# Altium schematic symbol library Component.SchLib: 47 symbols
Pins are listed as number, name and electrical type; pins without a type are passive.

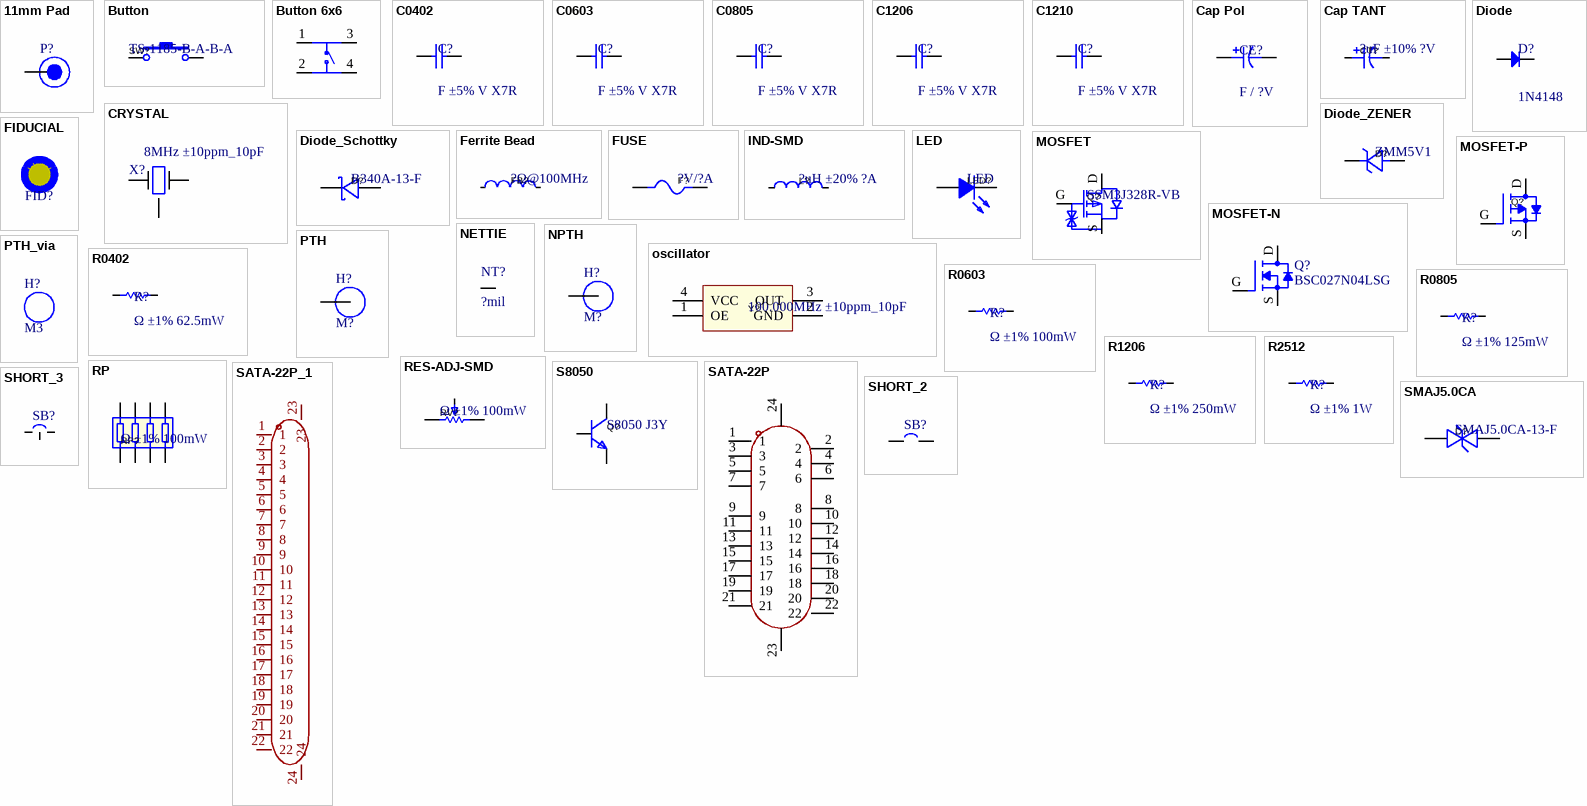
[diagram p0: symbols 11mm Pad to SMAJ5.0CA]

## 11mm Pad
designator P?
TestPad_SMD
footprint 11mm Pad
pins: 1

## Button
designator SW?, comment TS-1185-B-A-B-A
触点电流：50mA 额定电压(DC)：12V 电路结构：单刀单掷 安装方式：立贴 带灯：无 作用力：160gf 机械寿命：10万次 带支架：否 轻触开关3x4x2贴片2脚小龟 160gf; Manufacturer: XKB Connectivity(中国星坤); Add into BOM: yes; Contact Current: 50mA; Voltage Rating (DC): 12V; Circuit: 单刀单掷; Actuator Style: 圆形按钮; Actuator/Cap Color: 黑色; With Lamp: 无; Mechanical Life: 10万次; Switch Length: 4mm; Switch Width: 3mm; Switch Height: 2mm; Strike Gundam: 否; Name: TS-1185-B-A-B-A; Symbol: TS-1185-B-A-B-A; Device: TS-1185-B-A-B-A; LCSC Part Name: 4*3*2mm 立贴 轻触开关; Supplier Part: C561517; Manufacturer Part: TS-1185-B-A-B-A; Supplier Footprint: SMD; JLCPCB Part Class: Extended Part; Datasheet: https://atta.szlcsc.com/upload/public/pdf/source/20211011/C2F26DC0AE1820400F54DBF49644F5A1.pdf; Supplier: LCSC; Convert to PCB: yes; Insulation Resistance: -; Mounting Style: 立贴; Operating Force: 160gf; Operating Temperature: -30℃~+85℃
footprint SW-SMD_L4.0-W3.0-LS5.0
3D model SW-SMD_L4.0-W3.0-H2-LS5.0
pins: 1, 2

## Button 6x6
designator SW?, comment KH-6X6X8H-STM  (value not drawn)
Symbol: KH-6X6X8H-STM
footprint SW-SMD_4P-L6.0-W6.0-P4.50-LS9.0-1
pins: 1 A, 2 C, 3 B, 4 D

## C0402
designator C?, comment F ±5% V X7R
Capacitor; Published: 8-Jun-2000; LatestRevisionDate: 17-Jul-2002; LatestRevisionNote: Re-released for DXP Platform.; PackageReference: RAD-0.3; Publisher: Altium Limited; PackageDescription: Radial Cap, Thru-Hole; 2 Leads; 0.3 in Pin Spacing
simulation model CAP (Capacitor)
signal-integrity model Cap
footprint C0402
pins: 1, 2

## C0603
designator C?, comment F ±5% V X7R
Capacitor; Published: 8-Jun-2000; LatestRevisionDate: 17-Jul-2002; LatestRevisionNote: Re-released for DXP Platform.; PackageReference: RAD-0.3; Publisher: Altium Limited; PackageDescription: Radial Cap, Thru-Hole; 2 Leads; 0.3 in Pin Spacing
simulation model CAP (Capacitor)
signal-integrity model Cap
footprint C0603
pins: 1, 2

## C0805
designator C?, comment F ±5% V X7R
Capacitor; Published: 8-Jun-2000; LatestRevisionDate: 17-Jul-2002; LatestRevisionNote: Re-released for DXP Platform.; PackageReference: RAD-0.3; Publisher: Altium Limited; PackageDescription: Radial Cap, Thru-Hole; 2 Leads; 0.3 in Pin Spacing
simulation model CAP (Capacitor)
signal-integrity model Cap
footprint C0805
pins: 1, 2

## C1206
designator C?, comment F ±5% V X7R
Capacitor; Published: 8-Jun-2000; LatestRevisionDate: 17-Jul-2002; LatestRevisionNote: Re-released for DXP Platform.; PackageReference: RAD-0.3; Publisher: Altium Limited; PackageDescription: Radial Cap, Thru-Hole; 2 Leads; 0.3 in Pin Spacing
simulation model CAP (Capacitor)
signal-integrity model Cap
footprint C1206
pins: 1, 2

## C1210
designator C?, comment F ±5% V X7R
Capacitor; Published: 8-Jun-2000; LatestRevisionDate: 17-Jul-2002; LatestRevisionNote: Re-released for DXP Platform.; PackageReference: RAD-0.3; Publisher: Altium Limited; PackageDescription: Radial Cap, Thru-Hole; 2 Leads; 0.3 in Pin Spacing
simulation model CAP (Capacitor)
signal-integrity model Cap
footprint C1210
pins: 1, 2

## Cap Pol
designator CE?, comment F / ?V
Polarized Capacitor (Axial); Published: 8-Jun-2000; LatestRevisionDate: 17-Jul-2002; LatestRevisionNote: Re-released for DXP Platform.; PackageReference: POLAR0.8; Publisher: Altium Limited; PackageDescription: Polarized Capacitor; 2 Leads
simulation model CAP (Capacitor)
signal-integrity model Cap Pol
footprint CAP-SMD (BD4.0-L4.3-W4.3-FD-LS5.3)
footprint CAP_ELEC_SIZE_G (Capacitor, polarized, aluminum can; 10.0x10.2mm DxH)
pins: 1, 2
1 alternate drawing of the same symbol

## Cap TANT
designator CT?, comment ?uF ±10% ?V
容值:330uF;精度:±20%;额定电压:6.3V;等效串联电阻:-;; Manufacturer: 湘怡中元/湘江; Name: 330uF; Symbol: CA45-C6R3M337T; Add into BOM: yes; Value: 330uF; Tolerance: ±20%; Rated Voltage: 6.3V; Device: CA45-C6R3M337T; LCSC Part Name: 330uF ±20% 6.3V; Supplier Part: C2832686; Manufacturer Part: CA45-C6R3M337T; Supplier Footprint: CASE-A-2312; JLCPCB Part Class: 扩展库; Datasheet: https://atta.szlcsc.com/upload/public/pdf/source/20191009/C435293_78A410F3D73489DBEAC46056C4262F7A.pdf; Supplier: LCSC; Convert to PCB: yes; Leakage Current(DCL): -; Ripple Current: -; Equivalent Series Resistance(ESR): -
3D model CASE-C_L6.0-W3.2-H2.7
footprint CAP-SMD-R-RD (CASE-B-3528)
footprint CAP-SMD_L3.2-W1.6-RD (CASE-A-3216)
footprint CAP-SMD_L6.0-W3.2 (CASE-C-6032)
pins: 1, 2

## CRYSTAL
designator X?, comment 8MHz ±10ppm_10pF
Crystal 8MHz ±10ppm 10pF 200 Ohm -10°C ~ 60°C Surface Mount 4-SMD, No Lead (DFN, LCC); Manufacturer: Abracon LLC; Manufacturer Part Number: ABM3B-8.000MHZ-10-1-U-T; Operating Mode: Fundamental; Supplier 1: Digi-Key; Supplier Part Number 1: 535-9721-1-ND; RoHS: RoHS Compliant; Category: Crystals, Oscillators, Resonators; Stock: 35437; Pricing 1: 1=0.69, 10=0.578, 50=0.5198, 100=0.462, 500=0.4389 (USD); Packaging: Cut Tape (CT); Part Status: Active; Type: MHz Crystal; Frequency Stability: ±10ppm; Frequency Tolerance: ±10ppm; Load Capacitance: 10pF; Operating Temperature: -10°C ~ 60°C; Ratings: -; Mounting Type: Surface Mount; Package / Case: 4-SMD, No Lead; Size / Dimension: 0.197" L x 0.126" W (5.00mm x 3.20mm); Height - Seated (Max): 0.043" (1.10mm); ComponentLink1URL: http://www.abracon.com/Resonators/abm3b.pdf; ComponentLink1Description: http://www.abracon.com/Resonators/abm3b.pdf; Supplier 2: Digi-Key; Supplier Part Number 2: 535-9721-2-ND; Pricing 2: 1000=0.336, 3000=0.315, 5000=0.3045, 10000=0.294 (USD)
footprint CRYSTAL_3225 (4P-L3.2-W2.5-BL-2)
footprint CRYSTAL_2016
footprint CRYSTAL_2520
pins: 1, 3, G

## Diode
designator D?, comment 1N4148
High Conductance Fast Diode; Published: 8-Jun-2000; LatestRevisionDate: 17-Jul-2002; LatestRevisionNote: Re-released for DXP Platform.; DatasheetVersion: 1997; PackageReference: DO-35; Publisher: Altium Limited; PackageDescription: Diode, Axial; Body 3.8 x 1.9 mm (LxDia. max), Lead Dia. 0.53 mm (max); Code_JEDEC: DO-204-AH; ComponentLink1Description: Manufacturer Link; ComponentLink1URL: http://www.fairchildsemi.com/; ComponentLink2Description: Datasheet; ComponentLink2URL: http://www.fairchildsemi.com/ds/1N%2F1N4148.pdf
footprint SOD-523F (L1.2-W0.8-LS1.7-RD)
footprint SOD-123F (L2.7-W1.6-LS3.8-RD)
footprint SMA_L4.3-W2.6-LS5.2-RD
pins: 1 A, 2 K

## Diode_Schottky
designator D?, comment B340A-13-F
直流反向耐压(Vr):40V;平均整流电流(Io):3A;正向压降(Vf):500mV@3A;; Manufacturer: DIODES(美台); Add into BOM: yes; Reverse Voltage (Vr): 40V; Average Rectified Current (Io): 3A; Name: B340A-13-F; Symbol: B340A-13-F; Device: B340A-13-F; LCSC Part Name: 40V 3A 500mV@3A; Supplier Part: C85098; Manufacturer Part: B340A-13-F; Supplier Footprint: SMA(DO-214AC); JLCPCB Part Class: 扩展库; Datasheet: https://atta.szlcsc.com/upload/public/pdf/source/20171023/C134454_15087453575121052549.pdf; Supplier: LCSC; Convert to PCB: yes; Forward Voltage (Vf@If): 500mV@3A
footprint SMA_L4.4-W2.6-LS5.0-RD
3D model SMA_L4.4-W2.6-LS5.0-RD
footprint SOD-123_L2.8-W1.8-LS3.7-RD
footprint SOD-123_L2.7-W1.6-LS3.7-RD
footprint SMA_L4.3-W2.6-LS5.2-RD
pins: 1 K, 2 A

## Diode_ZENER
designator D?, comment ZMM5V1
Manufacturer: Slkor(萨科微); Symbol: ZMM5V1_C707194; Add into BOM: yes; Power Dissipation: 500mW; Reverse Leakage Current (Ir): 100nA@1V; Name: ZMM5V1; Device: ZMM5V1_C707194; LCSC Part Name: 500mW; Supplier Part: C707194; Manufacturer Part: ZMM5V1; Supplier Footprint: LL-34; JLCPCB Part Class: Extended Part; Datasheet: https://atta.szlcsc.com/upload/public/pdf/source/20200721/C707184_776B95022AAA01ECB528B9CFDAFDB27C.pdf; Supplier: LCSC; Convert to PCB: yes; Zener Voltage (Nom): -; Tolerance: -
footprint LL-34_L3.5-W1.5-RD
3D model LL-34_L3.5-W1.5
pins: 1 C, 2 A

## Ferrite Bead
designator FB?, comment ?Ω@100MHz
标称阻抗@测试频率:600Ω@100MHz;误差:±25%;直流电阻(RDC):250mΩ;额定电流:2A; Manufacturer: FH(风华); Name: CBW321609U601T; Add into BOM: yes; Tolerance: ±25%; DC Resistance: 250mΩ; Current Rating: 2A; Circuits: 1; Symbol: CBW321609U601T; Device: CBW321609U601T; LCSC Part Name: 600Ω@100MHz ±25%; Supplier Part: C73732; Manufacturer Part: CBW321609U601T; Supplier Footprint: SMD; JLCPCB Part Class: Extended Part; Datasheet: https://atta.szlcsc.com/upload/public/pdf/source/20160606/1465200211209.pdf; Supplier: LCSC; Convert to PCB: yes; Impedance @ Frequency: 600Ω@100MHz
footprint L0603
footprint L0805
footprint L1206
pins: 1, 2

## FIDUCIAL
designator FID?, comment MARK Point  (value not drawn)
1mm Fiducial with 2mm soldermask, 3mm keepout
footprint FIDUCIAL (1mm fiducial with 3mm keepout)

## FUSE
designator F?, comment ?V/?A
Manufacturer: BHFUSE(佰宏); Name: BSMD0805-050-6V; Add into BOM: yes; Operating Voltage (Max): 6V; Current Rating (Max): 40A; Hold Current: 500mA; Trip Current: 1A; Power Dissipation: 500mW; Resistance - Initial (Ri) (Min): 100mΩ; Resistance - Post Trip (R1) (Max): 850mΩ; Maximum Time to Trip: 100ms; Symbol: BSMD0805-050-6V; Device: BSMD0805-050-6V; LCSC Part Name: 6V 500mA 0805自恢复; Supplier Part: C883108; Manufacturer Part: BSMD0805-050-6V; Supplier Footprint: 0805; JLCPCB Part Class: Extended Part; Datasheet: https://atta.szlcsc.com/upload/public/pdf/source/20220223/3FD8E8A8A3681642EAEF465E16495357.pdf; Supplier: LCSC; Convert to PCB: yes; Operating Temperature: -40℃~+85℃
footprint F0805
3D model F0805_L2.1-W1.4-H0.8
footprint F1206
pins: 1, 2

## IND-SMD
designator L?, comment ?uH ±20% ?A
电感值:10uH;精度:±20%;额定电流:4A;饱和电流(Isat):5.5A;直流电阻(DCR):62mΩ;; Manufacturer: PSA(信昌电陶); Name: 10uH; Symbol: MCS0630-100MPY1; Add into BOM: yes; Value: 10uH; Rated Current: 4A; Saturation Current (Isat): 5.5A; DC Resistance (DCR): 62mΩ; Device: MCS0630-100MPY1; LCSC Part Name: 10uH ±20% 4A 62mΩ; Supplier Part: C2937094; Manufacturer Part: MCS0630-100MPY1; Supplier Footprint: 0630; JLCPCB Part Class: Extended Part; Datasheet: https://atta.szlcsc.com/upload/public/pdf/source/20220121/EA6E6E6F70ED7BAE67EC293805EAAACB.pdf; Supplier: LCSC; Convert to PCB: yes; Tolerance: ±20%
footprint IND-SMD_L7.3-W6.6 (L7.3-W6.6)
3D model IND-SMD_L7.1-W6.6-H2.8
pins: 1, 2

## LED
designator LED?
发光颜色:; Manufacturer: EVERLIGHT(亿光); Name: 17-21SURC/S530-A2/TR8; Add into BOM: yes; Emitted Color: 红灯; Symbol: 17-21SURC/S530-A2/TR8; Device: 17-21SURC/S530-A2/TR8; LCSC Part Name: 红灯; Supplier Part: C131244; Manufacturer Part: 17-21SURC/S530-A2/TR8; Supplier Footprint: 0805; JLCPCB Part Class: Extended Part; Datasheet: https://atta.szlcsc.com/upload/public/pdf/source/20170918/C131244_1505726880590976254.pdf; Supplier: LCSC; Convert to PCB: yes
3D model LED0603-R-RD
footprint LED0603-RD
footprint LED0805-R-RD
pins: 1 A, 2 K

## MOSFET
designator Q?, comment SSM3J328R-VB
Manufacturer: VBsemi(微碧); Add into BOM: yes; Name: SSM3J328R-VB; Symbol: SSM3J328R-VB; Device: SSM3J328R-VB; LCSC Part Name: SSM3J328R-VB; Supplier Part: C7494583; Manufacturer Part: SSM3J328R-VB; Supplier Footprint: SOT-23(TO-236); Datasheet: https://atta.szlcsc.com/upload/public/pdf/source/20230809/B11CEF1749BD8B4A43E8BE92C63E6317.pdf; Supplier: LCSC; Convert to PCB: yes
footprint SOT-23-3_L2.9-W1.4-P1.91-LS2.6-BR
3D model SOT-23-3_L2.9-W1.4-P1.91-LS2.6-BR
pins: D, G, S

## MOSFET-N
designator Q?, comment BSC027N04LSG
MOSFET – Power, Single, / N-Channel, PG-TDSON-8 / SuperSO8 5x6 / 40 V, 139 A; Manufacturer: ON Semiconductor; Manufacturer Part Number: NTMFS4935NT1G; Drain to Source Voltage (Vdss): 30V; Current - Continuous Drain (Id) @ 25°C: 13A (Ta), 93A (Tc); Drive Voltage (Max Rds On,  Min Rds On): 4.5V, 10V; Vgs(th) (Max) @ Id: 2.2V @ 250µA; Gate Charge (Qg) (Max) @ Vgs: 49.4nC @ 10V; Input Capacitance (Ciss) (Max) @ Vds: 4850pF @ 15V; Vgs (Max): ±20V; Power Dissipation (Max): 930mW (Ta), 48W (Tc); Rds On (Max) @ Id, Vgs: 3.2 mOhm @ 30A, 10V; Supplier 1: Digi-Key; Supplier Part Number 1: NTMFS4935NT1GOSCT-ND; RoHS: RoHS Compliant; Category: Discrete Semiconductor Products; Stock 1: 932; Pricing 1: 1=0.61, 10=0.541, 100=0.4145, 500=0.3277 (USD); Packaging: Cut Tape (CT); Part Status: Active; FET Type: N-Channel; Technology: MOSFET (Metal Oxide); FET Feature: -; Operating Temperature: -55°C ~ 150°C (TJ); Mounting Type: Surface Mount; Supplier Device Package: 5-DFN (5x6) (8-SOFL); Package / Case: 8-PowerTDFN, 5 Leads; ComponentLink1URL: http://www.onsemi.com/pub_link/Collateral/NTMFS4935N-D.PDF; ComponentLink1Description: http://www.onsemi.com/pub_link/Collateral/NTMFS4935N-D.PDF
footprint DFN-5_L4.9-W5.9-P1.27-LS6.2-BL
footprint NRVTS10100EMFST1G
pins: D, G, S

## MOSFET-P
designator Q?
类型 P沟道 / 漏源电压(Vdss) 40V / 连续漏极电流(Id) 46A / 功率(Pd) 5W；39W / 导通电阻(RDS(on)@Vgs,Id) 10mΩ@15A,10V / 阈值电压(Vgs(th)@Id) 2.3V@250uA; Manufacturer: VISHAY(威世); Symbol: SI7463ADP-T1-GE3; Add into BOM: yes; Total Gate Charge (Qg@Vgs): 144nC@10V; Input Capacitance (Ciss@Vds): 4.15nF@20V; Device: SI7463ADP-T1-GE3; Supplier: LCSC; Supplier Part: C469466; Manufacturer Part: SI7463ADP-T1-GE3; JLCPCB Part Class: Extended Part; LCSC Part Name: P沟道 耐压:40V 电流:46A; Supplier Footprint: PowerPAK-SO-8; Datasheet: https://atta.szlcsc.com/upload/public/pdf/source/20201103/C469466_DEB614A703506C939C03FF0A9B0AE822.pdf; Convert to PCB: yes; Type: P沟道; Drain Source Voltage (Vdss): 40V; Continuous Drain Current (Id): 46A; Power Dissipation (Pd): 5W；39W; Drain Source On Resistance (RDS(on)@Vgs,Id): 10mΩ@15A,10V; Gate Threshold Voltage (Vgs(th)@Id): 2.3V@250uA; Reverse Transfer Capacitance (Crss@Vds): -; Operating Temperature: -55℃~+150℃@(Tj)
footprint POWERPAK-SO-8_L6.1-W5.1-P1.27-BL-EP
footprint PDFN3333-8_L3.1-W3.2-P0.65-LS3.4-BL
pins: D, G, S

## NETTIE
designator NT?, comment ?mil  (net tie, no BOM)
footprint NETTIE_8mil
footprint NETTIE_10mil
footprint NETTIE_6mil
pins: 1, 2

## NPTH
designator H?, comment M?
Hole without copper
footprint M3_NPTH (Hole without copper)
pins: 1

## oscillator
designator Y?, comment 100.000MHz ±10ppm_10pF
Manufacturer: EPSON(爱普生); Name: 100MHz; Symbol: SG-8101CE-100.000000MHZ-TCHPA; Device: SG-8101CE 100.000000MHz TCHPA; Add into BOM: yes; Value: 100MHz; Frequency Stability: ±20ppm; Supply Voltage: 1.8V~3.3V; LCSC Part Name: 3225 100MHz 1.8~3.3V 20ppm  OE  SMD_4P -40~+105℃; Supplier Part: C390559; Manufacturer Part: SG-8101CE 100.000000MHz TCHPA; Supplier Footprint: SMD3225-4P; JLCPCB Part Class: Extended Part; Datasheet: https://atta.szlcsc.com/upload/public/pdf/source/20190626/C390559_D0305530A2A3721045533DB4F9788766.pdf; Supplier: LCSC; Convert to PCB: yes; Operating Temperature: -40℃~+105℃
footprint OSC-SMD_4P-L3.2-W2.5-BL_SIT8008BI
3D model OSC-SMD_4P-L3.2-W2.5-H1.0
footprint OSC-SMD_4P-L2.0-W1.6-BL (2016)
footprint OSC-SMD_4P-L2.5-W2.0-BL-1 (2520)
pins: 1 OE, 2 GND, 3 OUT, 4 VCC

## PTH
designator H?, comment M?
Hole with copper
footprint M3_PTH (Hole with copper)
pins: 1

## PTH_via
designator H?, comment M3
Hole with copper
footprint M3_PTH-VIA (Hole with copper)

## R0402
designator R?, comment Ω ±1% 62.5mW
Resistor; Published: 8-Jun-2000; LatestRevisionDate: 17-Jul-2002; LatestRevisionNote: Re-released for DXP Platform.; PackageReference: AXIAL-0.3; Publisher: Altium Limited; PackageDescription: Axial Device, Thru-Hole; 2 Leads; 0.3 in Pin Spacing
simulation model RESISTOR (Resistor)
signal-integrity model Res
footprint R0402
pins: 1, 2

## R0603
designator R?, comment Ω ±1% 100mW
Resistor; Published: 8-Jun-2000; LatestRevisionDate: 17-Jul-2002; LatestRevisionNote: Re-released for DXP Platform.; PackageReference: AXIAL-0.3; Publisher: Altium Limited; PackageDescription: Axial Device, Thru-Hole; 2 Leads; 0.3 in Pin Spacing
simulation model RESISTOR (Resistor)
signal-integrity model Res
footprint R0603
pins: 1, 2

## R0805
designator R?, comment Ω ±1% 125mW
Resistor; Published: 8-Jun-2000; LatestRevisionDate: 17-Jul-2002; LatestRevisionNote: Re-released for DXP Platform.; PackageReference: AXIAL-0.3; Publisher: Altium Limited; PackageDescription: Axial Device, Thru-Hole; 2 Leads; 0.3 in Pin Spacing
simulation model RESISTOR (Resistor)
signal-integrity model Res
footprint R0805
pins: 1, 2

## R1206
designator R?, comment Ω ±1% 250mW
Resistor; Published: 8-Jun-2000; LatestRevisionDate: 17-Jul-2002; LatestRevisionNote: Re-released for DXP Platform.; PackageReference: AXIAL-0.3; Publisher: Altium Limited; PackageDescription: Axial Device, Thru-Hole; 2 Leads; 0.3 in Pin Spacing
simulation model RESISTOR (Resistor)
signal-integrity model Res
footprint R1206
pins: 1, 2

## R2512
designator R?, comment Ω ±1% 1W
Resistor; Published: 8-Jun-2000; LatestRevisionDate: 17-Jul-2002; LatestRevisionNote: Re-released for DXP Platform.; PackageReference: AXIAL-0.3; Publisher: Altium Limited; PackageDescription: Axial Device, Thru-Hole; 2 Leads; 0.3 in Pin Spacing
simulation model RESISTOR (Resistor)
signal-integrity model Res
footprint R2512
pins: 1, 2

## RES-ADJ-SMD
designator RV?, comment Ω ±1% 100mW
阻值:50kΩ;精度:±25%;功率:150mW;; Manufacturer: HDK(北陆电气); Name: 50kΩ; Symbol: VG039NCHXTB503; Add into BOM: yes; Value: 50kΩ; Tolerance: ±25%; Power(Watts): 150mW; Turns: 1; Device: VG039NCHXTB503; LCSC Part Name: VG039NCHXTB503; Supplier Part: C145161; Manufacturer Part: VG039NCHXTB503; Supplier Footprint: SMD; JLCPCB Part Class: Extended Part; Datasheet: https://atta.szlcsc.com/upload/public/pdf/source/20171123/C145161_15114111011641137837.pdf; Supplier: LCSC; Convert to PCB: yes; Rated Voltage: -
footprint RES-ADJ-SMD (VG039NCH)
3D model RES-ADJ-SMD_3P-L3.8-W3.0-H1.2-P1.90
pins: 1, 2, 3

## RP
designator RP?, comment Ω ±1% 100mW
Manufacturer: YAGEO(国巨); Name: 30Ω; Symbol: YC124-JR-0730RL; Add into BOM: yes; Value: 30Ω; Tolerance: ±5%; Power(Watts): 62.5mW; Number of Resistors: 4; Temperature Coefficient: ±200ppm/℃; Device: YC124-JR-0730RL; LCSC Part Name: 30Ω ±5% 0402x4; Supplier Part: C136847; Manufacturer Part: YC124-JR-0730RL; Supplier Footprint: 0402x4; JLCPCB Part Class: Extended Part; Datasheet: https://atta.szlcsc.com/upload/public/pdf/source/20171116/C136847_15108221195481123713.pdf; Supplier: LCSC; Convert to PCB: yes; Number of Pins: 8
footprint RES-ARRAY-SMD_0402-8P-L2.0-W1.0-BL
3D model R0402-8P_L2.0-W1.0-H0.5
footprint RES-ARRAY-SMD_0603-8P-L3.2-W1.6-BL
pins: 1, 2, 3, 4, 5, 6, 7, 8

## S8050
designator Q?, comment S8050 J3Y
Manufacturer: CJ(江苏长电/长晶); Name: SS8050; Symbol: SS8050_C2150; Add into BOM: yes; Transistor Type: NPN; Collector-Emitter Breakdown Voltage (Vceo): 25V; Collector Current (Ic): 1.5A; Power Dissipation (Pd): 300mW; Collector Cut-Off Current (Icbo): 100nA; Collector-Emitter Saturation Voltage (VCE(sat)@Ic,Ib): 500mV@800mA,80mA; DC Current Gain (hFE@Ic,Vce): 200@100mA,1V; Transition Frequency (fT): 100MHz; Device: SS8050_C2150; LCSC Part Name: NPN 25V 1.5A Y1 200-350; Supplier Part: C2150; Manufacturer Part: SS8050; Supplier Footprint: SOT-23; JLCPCB Part Class: Basic Part; Datasheet: https://atta.szlcsc.com/upload/public/pdf/source/20230322/AEE86F4B043774EFF80CAEA14A37D9E9.pdf; Supplier: LCSC; Convert to PCB: yes; Operating Temperature: +150℃@(Tj)
footprint SOT-23-3_L2.9-W1.3-P1.90-LS2.4-BR
3D model SOT-23-3P_L2.9-W1.3-H1.0-LS2.4-P0.95
footprint SOT-23-3_L2.9-W1.6-P1.90-LS2.8-BR
footprint SOT95P240X110-3N
pins: 1 B, 2 E, 3 C

## SATA-22P
designator J?, comment HDGCYLSY-SATA-113  (value not drawn)
Manufacturer: HDGC(华德共创); Add into BOM: yes; Interface Form: SATA; Connector Type: 母; Supplementary Features: 鱼叉脚(金属); Symbol: HDGCYLSY-SATA-113; Device: HDGCYLSY-SATA-113; LCSC Part Name: HDGCYLSY-SATA-113; Supplier Part: C22438715; Manufacturer Part: HDGCYLSY-SATA-113; Supplier Footprint: 插件; JLCPCB Part Class: Extended Part; Datasheet: https://atta.szlcsc.com/upload/public/pdf/source/20240523/CC8F1A74D84556CFB703F6AD7368385F.pdf; Supplier: LCSC; Convert to PCB: yes; Number of Pins: 22P; Mounting Style: 直插; Body Height: -; Operating Temperature Range: -
footprint CONN-TH_HDGCYLSY-SATA-113
3D model CONN-TH_HDGCYLSY-SATA-113
pins: 1, 2, 3, 4, 5, 6, 7, 8, 9, 10, 11, 12, 13, 14, 15, 16, 17, 18, 19, 20, 21, 22, 23, 24

## SATA-22P_1
designator J?, comment XUTS-2218-0127  (value not drawn)
Manufacturer: LX(连欣科技); Add into BOM: yes; Symbol: XUTS-2218-0127; Device: XUTS-2218-0127; LCSC Part Name: XUTS-2218-0127; Supplier Part: C19193804; Manufacturer Part: XUTS-2218-0127; Supplier Footprint: SMD,P=1.27mm; JLCPCB Part Class: Extended Part; Datasheet: https://atta.szlcsc.com/upload/public/pdf/source/20231117/B34EFEA7383D9ABF34D19E7DB42C8BB5.pdf; Supplier: LCSC; Convert to PCB: yes
footprint CONN-SMD_SATA7-15-LT
3D model CONN-SMD_SATA7-15-LT
pins: 1, 2, 3, 4, 5, 6, 7, 8, 9, 10, 11, 12, 13, 14, 15, 16, 17, 18, 19, 20, 21, 22, 23, 24

## SHORT_2
designator SB?
footprint SHORT_2
pins: 1, 2

## SHORT_3
designator SB?
footprint SHORT_3_90deg
footprint SHORT_3_180deg
pins: 1, 2, 3

## SMAJ5.0CA
designator D?, comment SMAJ5.0CA-13-F
Manufacturer: DIODES(美台); Add into BOM: yes; Polarity: 双向; Reverse Stand-Off Voltage (Vrwm): 5V; Breakdown Voltage (Min): 6.4V; Breakdown Voltage (Max): 7.25V; Reverse Leakage Current (Ir): 800uA; Maximum Clamping Voltage: 9.2V; Peak Pulse Power Dissipation (Ppp)@10/1000μs: 400W; Name: SMAJ5.0CA-13-F; Symbol: SMAJ5.0CA-13-F; Device: SMAJ5.0CA-13-F; LCSC Part Name: 双向 Vrwm:5V 400W; Supplier Part: C134993; Manufacturer Part: SMAJ5.0CA-13-F; Supplier Footprint: SMA(DO-214AC); JLCPCB Part Class: Extended Part; Datasheet: https://atta.szlcsc.com/upload/public/pdf/source/20180308/C134993_15204896803081413896.pdf; Supplier: LCSC; Convert to PCB: yes; Peak Pulse Current (Ipp)@10/1000μs: -
footprint SMA_L4.4-W2.6-LS5.0-BI
3D model SMA_L4.3-W2.5-H2.1-LS5.0
pins: 1, 2

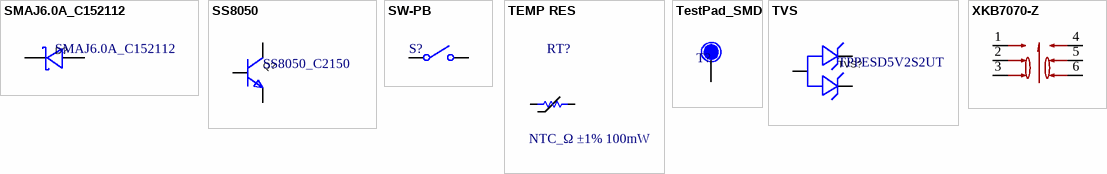
[diagram p1: symbols SMAJ6.0A_C152112 to XKB7070-Z]

## SMAJ6.0A_C152112
designator D?
Manufacturer: BORN(伯恩半导体); Add into BOM: yes; Polarity: 单向; Reverse Stand-Off Voltage (Vrwm): 6V; Breakdown Voltage: 6.67V; Peak Pulse Current (Ipp)@10/1000μs: 38.8A; Maximum Clamping Voltage: 10.3V; Name: SMAJ6.0A; Symbol: SMAJ6.0A_C152112; Device: SMAJ6.0A_C152112; LCSC Part Name: 单向 Vrwm:6V; Supplier Part: C152112; Manufacturer Part: SMAJ6.0A; Supplier Footprint: SMA(DO-214AC); JLCPCB Part Class: Extended Part; Datasheet: https://atta.szlcsc.com/upload/public/pdf/source/20180207/C152112_15179949389561359152.pdf; Supplier: LCSC; Convert to PCB: yes
footprint SMA_L4.4-W2.6-LS5.0-RD
3D model SMA_L4.4-W2.6-LS5.0-RD
pins: 1 K, 2 A

## SS8050
designator Q?, comment SS8050_C2150
Manufacturer: CJ(江苏长电/长晶); Name: SS8050; Add into BOM: yes; Transistor Type: NPN; Collector-Emitter Breakdown Voltage (Vceo): 25V; Collector Current (Ic): 1.5A; Power Dissipation (Pd): 300mW; Collector Cut-Off Current (Icbo): 100nA; Collector-Emitter Saturation Voltage (VCE(sat)@Ic,Ib): 500mV@800mA,80mA; DC Current Gain (hFE@Ic,Vce): 200@100mA,1V; Transition Frequency (fT): 100MHz; Symbol: SS8050_C2150; Device: SS8050_C2150; LCSC Part Name: NPN 25V 1.5A Y1 200-350; Supplier Part: C2150; Manufacturer Part: SS8050; Supplier Footprint: SOT-23; JLCPCB Part Class: Basic Part; Datasheet: https://atta.szlcsc.com/upload/public/pdf/source/20230322/AEE86F4B043774EFF80CAEA14A37D9E9.pdf; Supplier: LCSC; Convert to PCB: yes; Operating Temperature: +150℃@(Tj)
footprint SOT-23-3_L2.9-W1.3-P1.90-LS2.4-BR
3D model SOT-23-3P_L2.9-W1.3-H1.0-LS2.4-P0.95
footprint SOT-23-3_L2.9-W1.6-P1.90-LS2.8-BR
pins: 1 B, 2 E, 3 C

## SW-PB
designator S?
船型开关; Published: 24-Mar-1999; LatestRevisionDate: 17-Jul-2002; LatestRevisionNote: Re-released for DXP Platform.; PackageReference: SPST-2; Publisher: Altium Limited; PackageDescription: Switch; 2 Leads
footprint SW-PB (船型开关)
pins: 1 COMMON, 2 NO

## TEMP RES
designator RT?, comment NTC_Ω ±1% 100mW
THERMISTOR 10K OHM NTC 0402 SMD
footprint R0402
footprint R0603
footprint R0805
footprint R2512
pins: 1, 2

## TestPad_SMD
designator T?, comment Test?  (value not drawn)
TestPad_SMD
footprint TestPad_SMD
pins: 1

## TVS
designator TVS?, comment TPPESD5V2S2UT
Manufacturer: TECH PUBLIC(台舟); Add into BOM: yes; Name: TPPESD5V2S2UT; Symbol: TPPESD5V2S2UT; Device: TPPESD5V2S2UT; LCSC Part Name: TPPESD5V2S2UT; Supplier Part: C558449; Manufacturer Part: TPPESD5V2S2UT; Supplier Footprint: SOT-23; JLCPCB Part Class: Extended Part; Datasheet: https://atta.szlcsc.com/upload/public/pdf/source/20210810/D18798CDF2FA9545B0B94BB525A81819.pdf; Supplier: LCSC; Convert to PCB: yes
footprint SOT-23-3_L2.9-W1.3-P1.90-LS2.4-BR
3D model SOT-23-3P_L2.9-W1.3-H1.0-LS2.4-P0.95
pins: 1 A, 2 A, 3 K

## XKB7070-Z
designator SW?  (value not drawn)
Symbol: XKB7070-Z
footprint SW-TH_6P-L7.0-W7.0-P2.00
pins: 1, 2, 3, 4, 5, 6